# Altium schematic symbol library M40-3200445R.SchLib: 1 symbol
Pins are listed as number, name and electrical type; pins without a type are passive.

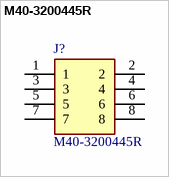
[diagram p0: symbol M40-3200445R]

## M40-3200445R
designator J?
1.00mm Pitch DIL Vertical SMT Pin Header, location pegs, gold, 4+4 contacts, pick & place (Tape & Reel packing); Manufacturer_Name: Harwin; Mouser Part Number: 855-M40-3200445R; Mouser Price/Stock: https://www.mouser.co.uk/ProductDetail/Harwin/M40-3200445R?qs=aU5qWCfurfxafIJaAqcDbg%3D%3D; Manufacturer_Part_Number: M40-3200445R; Datasheet Link: https://cdn.harwin.com/pdfs/M40-320R.pdf
footprint HUSSP8W30P100_2X4_400X320X365P
pins: 1, 2, 3, 4, 5, 6, 7, 8